# EAGLE library part LTC3533 (library PowerProducts)
LT-Spice library generated with : ltspice.ulp from: D:/Program Files (x86)/LTC/LTspiceIV/lib/sym/PowerProducts/LTC3534*.asy at 07.10.2012 18:16:04
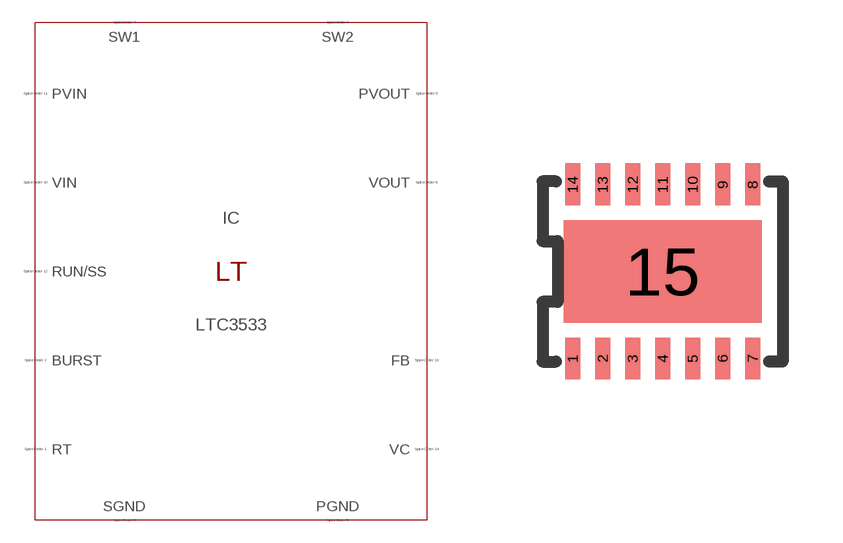
[diagram p223: symbol with the pads of DFN14(DE); footprint DFN14(DE)]

Designator prefix IC

## LTC3533 (SPICEMODEL: LTC3533.sub; SPICEPREFIX: X; VALUE2: LTC3533)  [DFN14(DE)]
1  RT  pas
2  BURST  pas
3  SGND  pas
4  SW1  pas
5  PGND  pas
6  PGND  pas
7  SW2  pas
8  VOUT  pas
9  PVOUT  pas
10  VIN  pas
11  PVIN  pas
12  RUN/SS  pas
13  FB  pas
14  VC  pas
15  SGND  pas

## Footprint DFN14(DE) (pad centres in mm)
Package generated from: DFN14(DE).asc (!PADS-POWERPCB-V5.0-BASIC! DESIGN DATABASE ASCII FILE 1.0) with :import-pads-powerpcb-v5.ulp Version 1.0.1 at 04.10.2012 14:11:16
smd 0.375 x 1.05: 1 -2.25,-2.175; 2 -1.5,-2.175; 3 -0.75,-2.175; 4 0,-2.175; 5 0.75,-2.175; 6 1.5,-2.175; 7 2.25,-2.175; 8 2.25,2.175; 9 1.5,2.175; 10 0.75,2.175; 11 0,2.175; 12 -0.75,2.175; 13 -1.5,2.175; 14 -2.25,2.175
smd 4.95 x 2.55: 15 0,0